# Altium schematic symbol library Schlib1.SCHLIB: 1 symbol
Pins are listed as number, name and electrical type; pins without a type are passive.

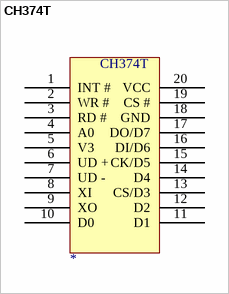
[diagram p0: symbol CH374T]

## CH374T
designator ?
pins: 1 INT #, 2 WR #, 3 RD #, 4 A0, 5 V3, 6 UD +, 7 UD -, 8 XI, 9 XO, 10 D0, 11 D1, 12 D2, 13 CS/D3, 14 D4, 15 CK/D5, 16 DI/D6, 17 DO/D7, 18 GND, 19 CS #, 20 VCC